# Altium schematic symbol library EZR_HIGH_QUALITY_V01.Schlib: 1 symbol
Pins are listed as number, name and electrical type; pins without a type are passive.

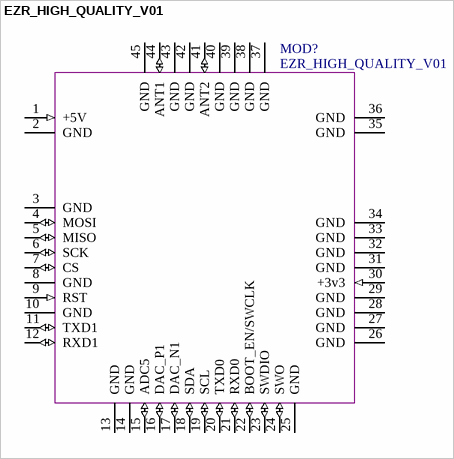
[diagram p0: symbol EZR_HIGH_QUALITY_V01]

## EZR_HIGH_QUALITY_V01
designator MOD?
pins: 1 +5V (in), 2 GND, 3 GND, 4 MOSI (io) "PB3;PCNT1_S0IN #1;US2_TX #1", 5 MISO (io) "B4;PCNT1_S1IN #1", 6 SCK (io) "PB5;US2_CLK #1", 7 CS (io) "PB6;US2_CS #1", 8 GND, 9 RST (in), 10 GND, 11 TXD1 (io) "PD0;ADC0_CH0;OPAMP_OUT2 #1;PCNT2_S0IN #0;US1_TX #1", 12 RXD1 (io) "PD1;ADC0_CH1;DAC0_OUT1ALT #4;OPAMP_OUT1ALT;TIM0_CC0 #3;PCNT2_S1IN #0;US1_RX #1;DBG_SWO #2", 13 GND, 14 GND, 15 ADC5 (io) ";PD5;ADC0_CH5;OPAMP_OUT2 #0;LEU0_RX #0;ETM_TD3 #0/2", 16 DAC_P1 (io) "PD6;ADC0_CH6 DAC0_P1;OPAMP_P1;TIM1_CC0#4;LE-TIM0_OUT0#0;PCNT0_S0IN#3;US1_RX#2;I2C0_SDA#1;ACMP0_O#2;ETM_TD0#0;BOOT_RX", 17 DAC_N1 (io) "PD7;;ADC0_CH7;DAC0_N1;OPAMP_N1;TIM1_CC1#4;LE-TIM0_OUT1#0;PCNT0_S1IN#3;US1_TX#2;I2C0_SCL#1;CMU_CLK0#2;ACMP1_O#2;ETM_TCLK#0;BOOT_TX", 18 SDA (io) "PC6;ACMP0_CH6;LEU1_TX #0;I2C0_SDA#2;LES_CH6 #0;ETM_TCLK #2", 19 SCL (io) "PC7;ACMP0_CH7;LEU1_RX #0;I2C0_SCL #2;LES_CH7 #0 ETM_TD0 #2", 20 TXD0 (io) "PE0;TIM3_CC0#1;PCNT0_S0IN#1;U0_TX#1;I2C1_SDA#2", 21 RXD0 (io) "PE1;TIM3_CC1#1;PCNT0_S1IN#1;U0_RX#1;I2C1_SCL#2", 22 BOOT_EN/SWCLK (io) "PF0;TIM0_CC0#5;LE-TIM0_OUT0#2;US1_CLK#2;LEU0_TX#3;I2C0_SDA#5;DBG_SWCLK#0/1/2/3", 23 SWDIO (io) "PF1;TIM0_CC1#5;LE-TIM0_OUT1#2;US1_CS#2;LEU0_RX#3;I2C0_SCL#5;DBG_SWDIO#0/1/2/3;GPIO_EM4WU3", 24 SWO (io) "PF2;TIM0_CC2#5;LEU0_TX#4;ACMP1_O#0;DBG_SWO#0;GPIO_EM4WU4", 25 GND, 26 GND, 27 GND, 28 GND, 29 GND, 30 +3v3 (in), 31 GND, 32 GND, 33 GND, 34 GND, 35 GND, 36 GND, 37 GND, 38 GND, 39 GND, 40 GND, 41 ANT2 (io), 42 GND, 43 GND, 44 ANT1 (io), 45 GND